# EAGLE library part MCP42XXX (library SparkFun-AnalogIC)
SPI controlled dual digital potentiometer by Microchip
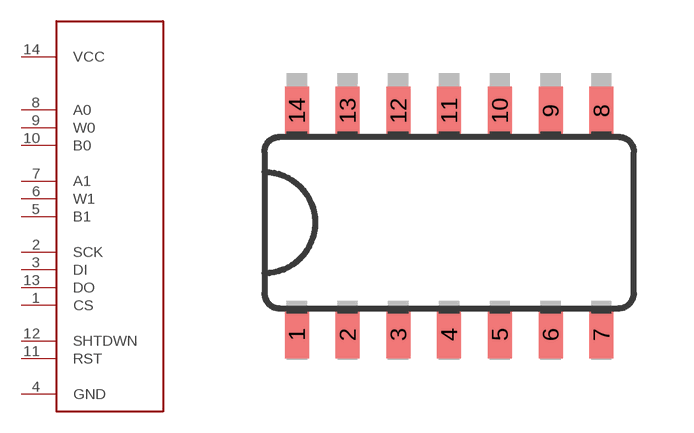
[diagram p18: symbol with the pads of SO014; footprint SO014]

Designator prefix U

## MCP42XXX  [SO014]
1  CS
2  SCK
3  DI
4  GND
5  B1
6  W1
7  A1
8  A0
9  W0
10  B0
11  RST
12  SHTDWN
13  DO
14  VCC

## Footprint SO014 (pad centres in mm)
smd 0.6 x 1.2: 1 -3.175,-2.8; 2 -1.905,-2.8; 3 -0.635,-2.8; 4 0.635,-2.8; 5 1.905,-2.8; 6 3.175,-2.8; 7 4.445,-2.8; 8 4.445,2.8; 9 3.175,2.8; 10 1.905,2.8; 11 0.635,2.8; 12 -0.635,2.8; 13 -1.905,2.8; 14 -3.175,2.8